# EAGLE library part 74LVC3G17 (library Traficon)
SN74LVC3G17 TRIPLE SCHMITT-TRIGGER BUFFER CT: 2 oct. 2008 TI-DC8-package = NXP SOT765-1 package
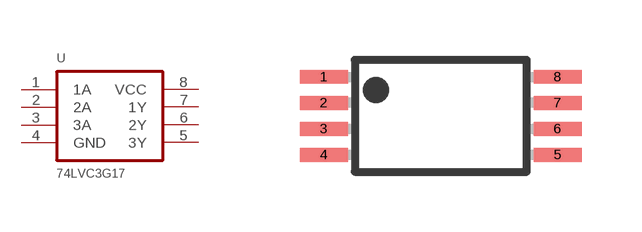
[diagram p208: symbol with the pads of TSSOP8; footprint TSSOP8]

Designator prefix U

## 74LVC3G17  [TSSOP8]
1  1A
2  2A
3  3A
4  GND
5  3Y
6  2Y
7  1Y
8  VCC

## Footprint TSSOP8 (pad centres in mm)
Plastic Small Outline
smd 1.2 x 0.35: 1 -2.925,0.975; 2 -2.925,0.325; 3 -2.925,-0.325; 4 -2.925,-0.975; 5 2.925,-0.975; 6 2.925,-0.325; 7 2.925,0.325; 8 2.925,0.975